# EAGLE library part ATTINY828 (library toyotune)
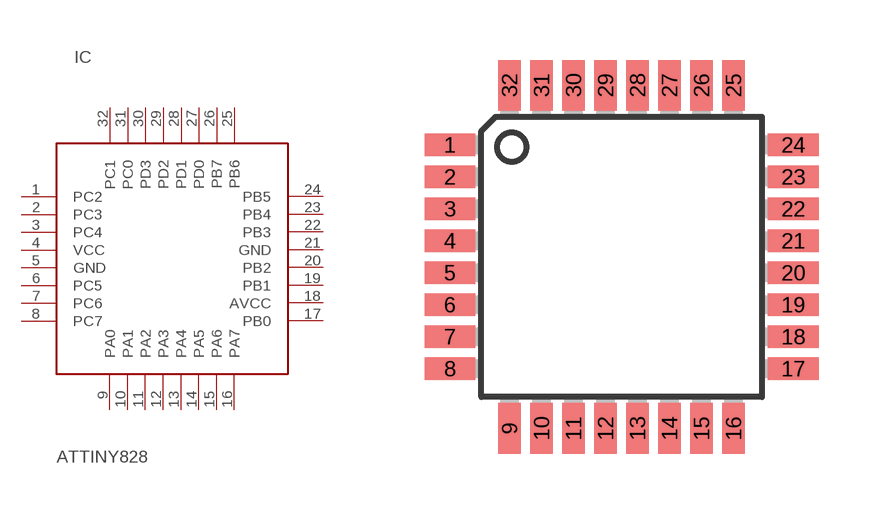
[diagram p44: symbol with the pads of TQFP32-08; footprint TQFP32-08]

Designator prefix IC

## ATTINY828-AU  [TQFP32-08]
1  PC2
2  PC3
3  PC4
4  VCC  pwr
5  GND  pwr
6  PC5
7  PC6
8  PC7
9  PA0
10  PA1
11  PA2
12  PA3
13  PA4
14  PA5
15  PA6
16  PA7
17  PB0
18  AVCC
19  PB1
20  PB2
21  GND  pwr
22  PB3
23  PB4
24  PB5
25  PB6
26  PB7
27  PD0
28  PD1
29  PD2
30  PD3
31  PC0
32  PC1

## Footprint TQFP32-08 (pad centres in mm)
Thin Plasic Quad Flat Package Grid 0.8 mm
smd 1.27 x 0.559: 1 -4.293,2.8; 2 -4.293,2; 3 -4.293,1.2; 4 -4.293,0.4; 5 -4.293,-0.4; 6 -4.293,-1.2; 7 -4.293,-2; 8 -4.293,-2.8; 17 4.293,-2.8; 18 4.293,-2; 19 4.293,-1.2; 20 4.293,-0.4; 21 4.293,0.4; 22 4.293,1.2; 23 4.293,2; 24 4.293,2.8
smd 0.559 x 1.27: 9 -2.8,-4.293; 10 -2,-4.293; 11 -1.2,-4.293; 12 -0.4,-4.293; 13 0.4,-4.293; 14 1.2,-4.293; 15 2,-4.293; 16 2.8,-4.293; 25 2.8,4.293; 26 2,4.293; 27 1.2,4.293; 28 0.4,4.293; 29 -0.4,4.293; 30 -1.2,4.293; 31 -2,4.293; 32 -2.8,4.293